# Altium footprint library NRF54LXX-QFAA.PcbLib: 1 footprints
Each footprint in its own frame and in the unit in brackets; x right, y up, seen from the top. Pads: shape width x height; smd on the part's side, far side on the other; paste and mask are expansions set on the pad; w line width, h text height; cw(c..) or ccw(c..) is an arc to the next point about the centre after c.
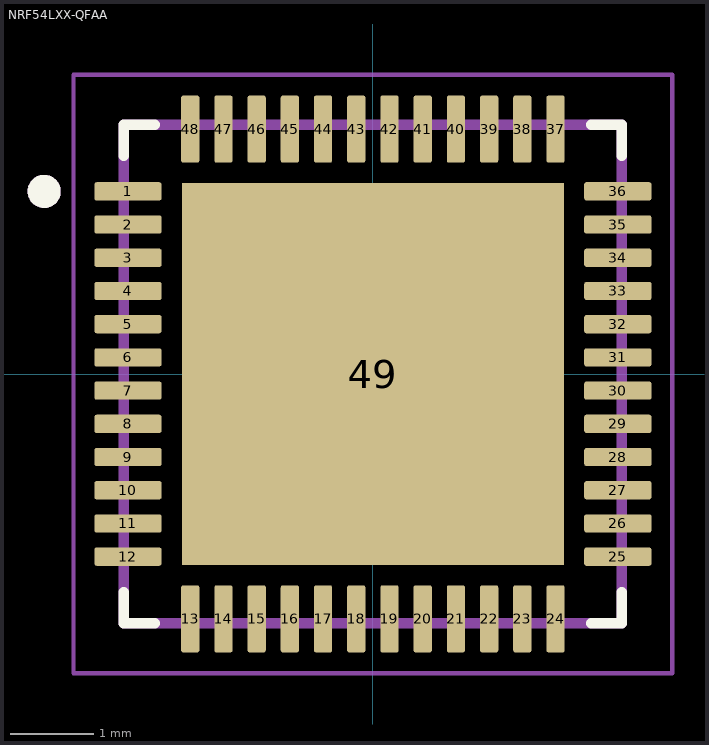
[diagram p0: the footprint, top view; thin cyan lines are the x and y axes]

## NRF54LXX-QFAA [mm]
pads (49):
  rrect25% 0.81x0.22 smd mask+0.05: 1(-2.95,2.2) 2(-2.95,1.8) 3(-2.95,1.4) 4(-2.95,1) 5(-2.95,0.6) 6(-2.95,0.2) 7(-2.95,-0.2) 8(-2.95,-0.6) 9(-2.95,-1) 10(-2.95,-1.4) 11(-2.95,-1.8) 12(-2.95,-2.2) 25(2.95,-2.2) 26(2.95,-1.8) 27(2.95,-1.4) 28(2.95,-1) 29(2.95,-0.6) 30(2.95,-0.2) 31(2.95,0.2) 32(2.95,0.6) 33(2.95,1) 34(2.95,1.4) 35(2.95,1.8) 36(2.95,2.2)
  rrect25% 0.22x0.81 smd mask+0.05: 13(-2.2,-2.95) 14(-1.8,-2.95) 15(-1.4,-2.95) 16(-1,-2.95) 17(-0.6,-2.95) 18(-0.2,-2.95) 19(0.2,-2.95) 20(0.6,-2.95) 21(1,-2.95) 22(1.4,-2.95) 23(1.8,-2.95) 24(2.2,-2.95) 37(2.2,2.95) 38(1.8,2.95) 39(1.4,2.95) 40(1,2.95) 41(0.6,2.95) 42(0.2,2.95) 43(-0.2,2.95) 44(-0.6,2.95) 45(-1,2.95) 46(-1.4,2.95) 47(-1.8,2.95) 48(-2.2,2.95)
  rect 4.6x4.6 smd mask+0.05: 49(0,0)
Top Overlay:
  circle w0.2: c-3.96,2.2 r0.1
  lines w0.127: -3,-2.63 -3,-3 -2.63,-3 ; -3,2.63 -3,3 -2.63,3 ; 2.63,-3 3,-3 3,-2.63 ; 2.63,3 3,3 3,2.63
Top Paste:
  region: 1.88,-1.88 0.42,-1.88 0.42,-0.42 1.88,-0.42
  region: -0.42,-1.88 -1.88,-1.88 -1.88,-0.42 -0.42,-0.42
  region: 1.88,0.42 0.42,0.42 0.42,1.88 1.88,1.88
  region: -0.42,0.42 -1.88,0.42 -1.88,1.88 -0.42,1.88
Top 3D Body:
  circle w0.2: c-3.96,2.2 r0.1
  lines w0.127: -3,-3 -3,3 3,3 3,-3 -3,-3
Top Courtyard:
  lines w0.05: -3.605,-3.605 -3.605,3.605 3.605,3.605 3.605,-3.605 -3.605,-3.605
3D body "NRF54L15-QFAA-R.STEP": height 0.9, standoff 0, extent -3,-3 3,3